# Altium schematic symbol library 39-30-1181.SCHLIB: 1 symbol
Pins are listed as number, name and electrical type; pins without a type are passive.

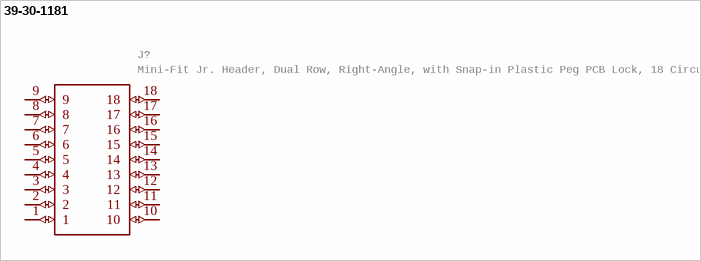
[diagram p0: symbol 39-30-1181]

## 39-30-1181
designator J?, comment Mini-Fit Jr. Header, Dual Row, Right-Angle, with Snap-in Plastic Peg PCB Lock, 18 Circuits, PA Polyamide Nylon 6/6 94V-0   Source:  Datasheet
Manufacturer_Name: Molex; GateName_1: G$1; SymbolName_1: 39-30-1181; LibraryName: 39-30-1181; DeviceSetName: 39-30-1181; Package: 39-30-118Y_012; Manufacturer_Part_Number: 39-30-1181; Mouser_Part_Number: 538-39-30-1181; Mouser_Price-Stock: https://www.mouser.co.uk/ProductDetail/Molex/39-30-1181?qs=UeCeOHRHQeaZHkOm2tqSjQ%3D%3D; Description: Mini-Fit Jr. Header, Dual Row, Right-Angle, with Snap-in Plastic Peg PCB Lock, 18 Circuits, PA Polyamide Nylon 6/6 94V-0; Height: 10mm
footprint 39-30-118Y_012
pins: 1 (io), 2 (io), 3 (io), 4 (io), 5 (io), 6 (io), 7 (io), 8 (io), 9 (io), 10 (io), 11 (io), 12 (io), 13 (io), 14 (io), 15 (io), 16 (io), 17 (io), 18 (io)